# EAGLE library part TE-DT13-48PABCD-R015-4X-DT-HEADER (library ClintonLib)
DT13-48PABCD-R015 Panel Mount connector use with EEC-5X650B Enclosure Store links (cheaper at Newark): Header <http://www.newark.com/deutsch/dt13-48pabcd-r015/rectangular-power-connector-right/dp/26W9687> Enclosure <http://www.newark.com/deutsch/eec-5x650b/pcb-enclosure-dt-no-vent-hole/dp/27W0094>
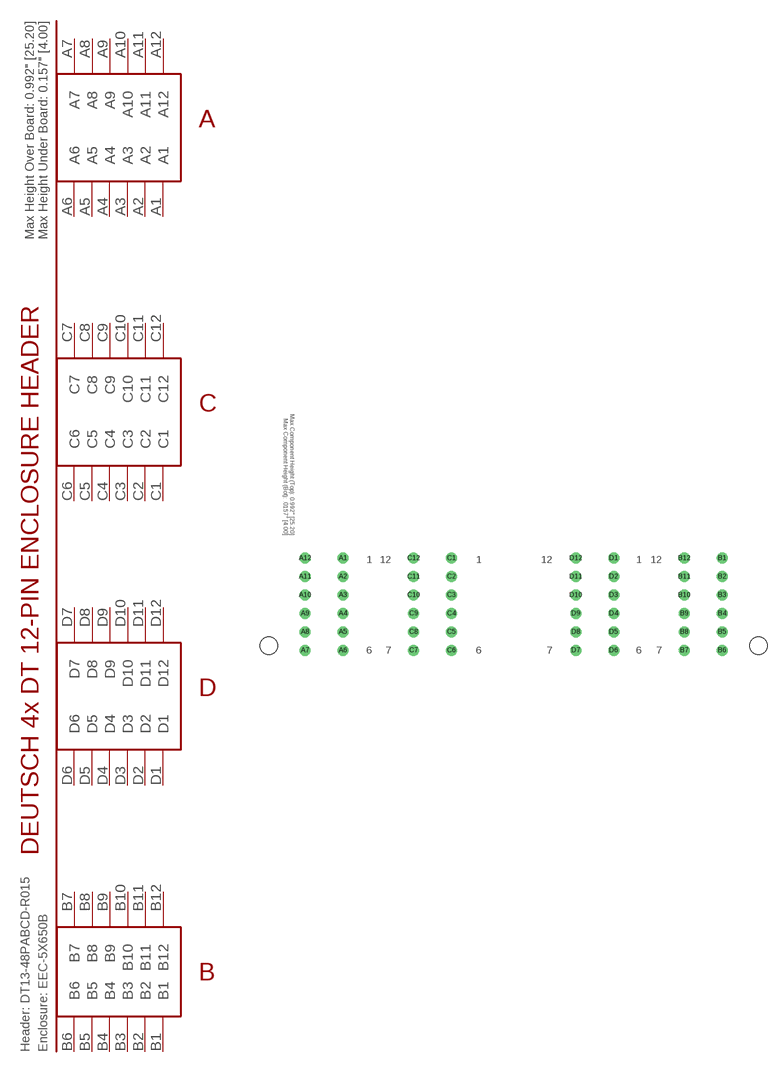
[diagram p10: symbol with the pads of TE-DT13-48PABCD-R015-4X-DT-HEADER; footprint TE-DT13-48PABCD-R015-4X-DT-HEADER]

Designator prefix -

## TE-DT13-48PABCD-R015-4X-DT-HEADER  [TE-DT13-48PABCD-R015-4X-DT-HEADER]
A1  A1
A2  A2
A3  A3
A4  A4
A5  A5
A6  A6
A7  A7
A8  A8
A9  A9
A10  A10
A11  A11
A12  A12
B1  B1
B2  B2
B3  B3
B4  B4
B5  B5
B6  B6
B7  B7
B8  B8
B9  B9
B10  B10
B11  B11
B12  B12
C1  C1
C2  C2
C3  C3
C4  C4
C5  C5
C6  C6
C7  C7
C8  C8
C9  C9
C10  C10
C11  C11
C12  C12
D1  D1
D2  D2
D3  D3
D4  D4
D5  D5
D6  D6
D7  D7
D8  D8
D9  D9
D10  D10
D11  D11
D12  D12

## Footprint TE-DT13-48PABCD-R015-4X-DT-HEADER (pad centres in mm)
DT13-48PABCD-R015 Panel Mount connector use with EEC-5X650B Enclosure
drill 1.778: A1 -41.161,26.67; A2 -41.161,22.225; A3 -41.161,17.78; A4 -41.161,13.335; A5 -41.161,8.89; A6 -41.161,4.445; A7 -50.279,4.445; A8 -50.279,8.89; A9 -50.279,13.335; A10 -50.279,17.78; A11 -50.279,22.225; A12 -50.279,26.67; B1 50.279,26.67; B2 50.279,22.225; B3 50.279,17.78; B4 50.279,13.335; B5 50.279,8.89; B6 50.279,4.445; B7 41.161,4.445; B8 41.161,8.89; B9 41.161,13.335; B10 41.161,17.78; B11 41.161,22.225; B12 41.161,26.67; C1 -14.999,26.67; C2 -14.999,22.225; C3 -14.999,17.78; C4 -14.999,13.335; C5 -14.999,8.89; C6 -14.999,4.445; C7 -24.117,4.445; C8 -24.117,8.89; C9 -24.117,13.335; C10 -24.117,17.78; C11 -24.117,22.225; C12 -24.117,26.67; D1 24.117,26.67; D2 24.117,22.225; D3 24.117,17.78; D4 24.117,13.335; D5 24.117,8.89; D6 24.117,4.445; D7 14.999,4.445; D8 14.999,8.89; D9 14.999,13.335; D10 14.999,17.78; D11 14.999,22.225; D12 14.999,26.67
hole 4.191 at -59.055,5.588
hole 4.191 at 59.055,5.588